# EAGLE library part MAX-8C-0 (library tagps)
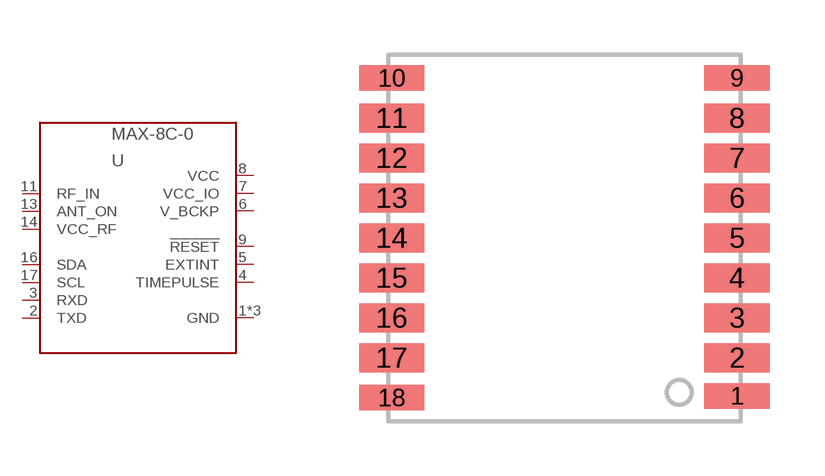
[diagram p1: symbol with the pads of MAX-8; footprint MAX-8]

Designator prefix -

## MAX-8C-0  [MAX-8]
1  GND  pwr
2  TXD  out
3  RXD  in
4  TIMEPULSE  out
5  EXTINT  in
6  V_BCKP  pwr
7  VCC_IO  pwr
8  VCC  pwr
9  !RESET
10  GND  pwr
11  RF_IN  in
12  GND  pwr
13  ANT_ON  out
14  VCC_RF  out
16  SDA
17  SCL  in

## Footprint MAX-8 (pad centres in mm)
Shrink Small Outline Package SSOP-28 http://www.ftdichip.com/Documents/DataSheets/DS_FT232R_v104.pdf
smd 1.8 x 0.7: 1 9.6,0.7; 9 9.6,9.45; 10 0.1,9.45; 18 0.1,0.65
smd 1.8 x 0.8: 2 9.6,1.75; 3 9.6,2.85; 4 9.6,3.95; 5 9.6,5.05; 6 9.6,6.15; 7 9.6,7.25; 8 9.6,8.35; 11 0.1,8.35; 12 0.1,7.25; 13 0.1,6.15; 14 0.1,5.05; 15 0.1,3.95; 16 0.1,2.85; 17 0.1,1.75